# EAGLE library part LT1360CS8TRPBF (library custom_dzmitry)
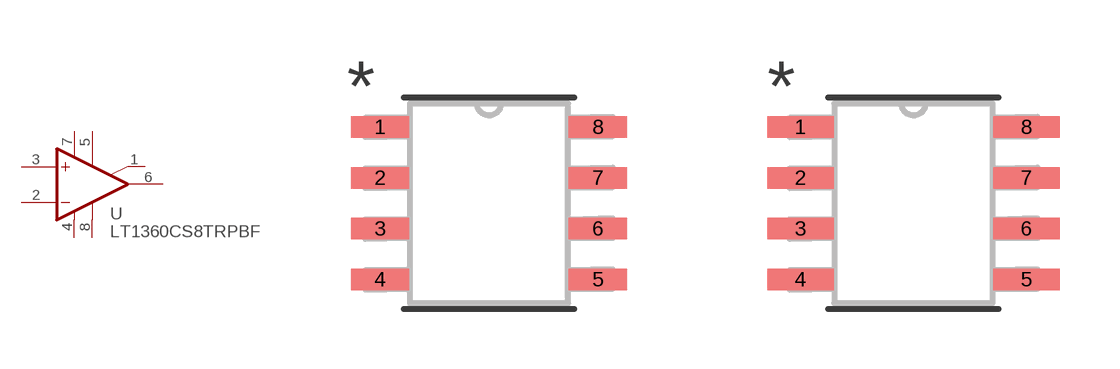
[diagram p9: symbol with the pads of SO-8_S_LIT; footprints SO-8_S_LIT, SO-8_S_LIT-M]

Designator prefix U

## LT1360CS8TRPBF (BUILT_BY: EMA_UL_Team; MANUFACTURER_PART_NUMBER: LT1360CS8#TRPBF; SOURCELIBRARY: LinearTech_2016-05-13_8; VENDOR: Linear Technology)  [SO-8_S_LIT]
1  NC  nc
2  -IN  in
3  +IN  in
4  V-  pwr
5  NC  nc
6  OUT  out
7  V+  pwr
8  NC  nc

## LT1360CS8TRPBFSO-8_S_LIT-M (BUILT_BY: EMA_UL_Team; MANUFACTURER_PART_NUMBER: LT1360CS8#TRPBF; SOURCELIBRARY: LinearTech_2016-05-13_8; VENDOR: Linear Technology)  [SO-8_S_LIT-M]
Pads as for SO-8_S_LIT

## LT1360CS8TRPBFSO-8_S_LIT-L (BUILT_BY: EMA_UL_Team; MANUFACTURER_PART_NUMBER: LT1360CS8#TRPBF; SOURCELIBRARY: LinearTech_2016-05-13_8; VENDOR: Linear Technology)  [SO-8_S_LIT-L]
Pads as for SO-8_S_LIT

## Footprint SO-8_S_LIT (pad centres in mm)
smd 1.46 x 0.533: 1 -2.724,1.905; 2 -2.724,0.635; 3 -2.724,-0.635; 4 -2.724,-1.905; 5 2.724,-1.905; 6 2.724,-0.635; 7 2.724,0.635; 8 2.724,1.905

## Footprint SO-8_S_LIT-M (pad centres in mm)
smd 1.664 x 0.533: 1 -2.826,1.905; 2 -2.826,0.635; 3 -2.826,-0.635; 4 -2.826,-1.905; 5 2.826,-1.905; 6 2.826,-0.635; 7 2.826,0.635; 8 2.826,1.905

## Footprint SO-8_S_LIT-L (pad centres in mm)
smd 1.257 x 0.483: 1 -2.623,1.905; 2 -2.623,0.635; 3 -2.623,-0.635; 4 -2.623,-1.905; 5 2.623,-1.905; 6 2.623,-0.635; 7 2.623,0.635; 8 2.623,1.905